# Altium schematic symbol library BSPD_Schlib.SchLib: 27 symbols (part 2 of 2)
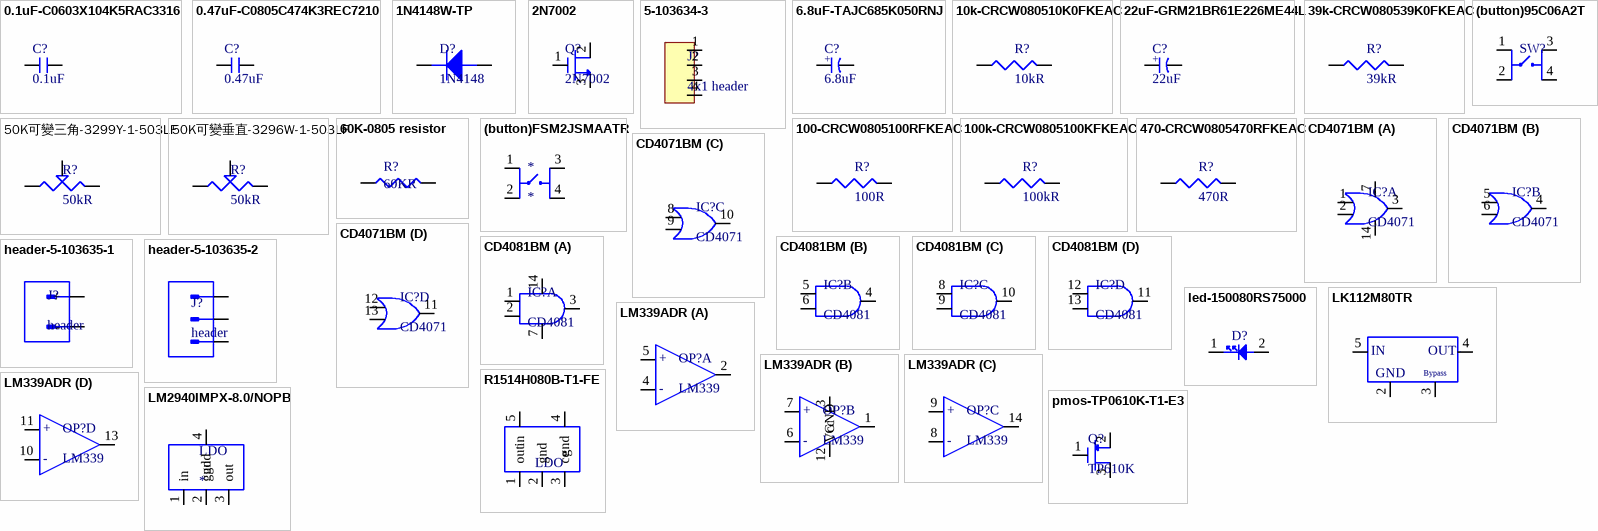
[diagram p1: symbols 0.1uF-C0603X104K5RAC3316 to R1514H080B-T1-FE]

## CD4081BM
designator IC?, comment CD4081
In a Tube of 50, Texas Instruments CD4081BM, Quad 2-Input AND Logic Gate, 14-Pin SOIC; Min Supply Voltage: 3V; Max Supply Voltage: 18V; Number of Elements: 4; Number of Outputs: 1; Quiescent Current: 5uA; High Level Output Current: -4.2mA; Low Level Output Current: 4.2mA; Output Current: 6.8mA; Number of Inputs: 2; Propagation Delay: 90ns; Turn-On Delay Time: 12ns; Schmitt Trigger Input: No; Input Capacitance: 5pF; Power Dissipation: 500mW; Supplier 1: Mouser; Supplier Part Number 1: 595-CD4081BM; Manufacturer: Texas Instruments; Manufacturer Part Number: CD4081BM; Stock 1: 2050; Pricing 1: 1 = 0.52000, 10 = 0.43300, 100 = 0.26300, 1000 = 0.20300, 2500 = 0.17300, 10000 = 0.16100 (USD); Mount: Surface Mount; Case/Package: SOIC; Number of Pins: 14; Weight: 0.004564oz; Contact Plating: Gold; Min Operating Temperature: -55°C; Max Operating Temperature: 125°C; Logic Function: AND; Packaging: Rail/Tube; Package Quantity: 50; Number of Gates: 4; Number of Circuits: 4; Number of Input Lines: 2; Number of Output Lines: 1; Number of Bits: 4; Length: 8.65mm; Height: 1.58mm; Width: 3.91mm; Radiation Hardening: No; Lead Free: Lead Free; REACH SVHC: No SVHC; ComponentLink1URL: https://datasheet.ciiva.com/1626/cd4081b-1626210.pdf?src-supplier=Newark; ComponentLink1Description: https://datasheet.ciiva.com/1626/cd4081b-1626210.pdf?src-supplier=Newark; ComponentLink2URL: https://datasheet.ciiva.com/15090/getdatasheetpartid-83085-15090610.pdf?src-supplier=Verical; ComponentLink2Description: https://datasheet.ciiva.com/15090/getdatasheetpartid-83085-15090610.pdf?src-supplier=Verical; ComponentLink3URL: https://datasheet.ciiva.com/26865/cd4081bm-26865364.pdf?src-supplier=IIIC; ComponentLink3Description: https://datasheet.ciiva.com/26865/cd4081bm-26865364.pdf?src-supplier=IIIC; ComponentLink4URL: https://datasheet.ciiva.com/41455/001015529-da-01-en-ic-2-in-and-gate-qu-cd4081bm-soic-14-tid-41455446.pdf?src-supplier=Conrad; ComponentLink4Description: https://datasheet.ciiva.com/41455/001015529-da-01-en-ic-2-in-and-gate-qu-cd4081bm-soic-14-tid-41455446.pdf?src-supplier=Conrad; ComponentLink5URL: https://datasheet.ciiva.com/1866/cd4073b-1866564.pdf?src-supplier=Digi-Key; ComponentLink5Description: https://datasheet.ciiva.com/1866/cd4073b-1866564.pdf?src-supplier=Digi-Key; ComponentLink6URL: https://datasheet.ciiva.com/7949/1833366-7949020.pdf?src-supplier=Element14; ComponentLink6Description: https://datasheet.ciiva.com/7949/1833366-7949020.pdf?src-supplier=Element14; ComponentLink7URL: https://octopart.com/click/track?ai=8629&ct=datasheets&sig=02680e7&at=physicalpart&sid=370&ppid=42573&hlid=24875867&src-supplier=TI+store; ComponentLink7Description: https://octopart.com/click/track?ai=8629&ct=datasheets&sig=02680e7&at=physicalpart&sid=370&ppid=42573&hlid=24875867&src-supplier=TI+store; ComponentLink8URL: http://datasheet.octopart.com/CD4081BM-Texas-Instruments-datasheet-151253.pdf?src-supplier=TI+store; ComponentLink8Description: http://datasheet.octopart.com/CD4081BM-Texas-Instruments-datasheet-151253.pdf?src-supplier=TI+store; ComponentLink9URL: http://datasheet.octopart.com/CD4081BM-Texas-Instruments-datasheet-10253518.pdf?src-supplier=TI+store; ComponentLink9Description: http://datasheet.octopart.com/CD4081BM-Texas-Instruments-datasheet-10253518.pdf?src-supplier=TI+store; ComponentLink10URL: http://datasheet.octopart.com/CD4081BM-Texas-Instruments-datasheet-10253444.pdf?src-supplier=TI+store; ComponentLink10Description: http://datasheet.octopart.com/CD4081BM-Texas-Instruments-datasheet-10253444.pdf?src-supplier=TI+store; ComponentLink11URL: http://datasheet.octopart.com/CD4081BM-Texas-Instruments-datasheet-10794629.pdf?src-supplier=TI+store; ComponentLink11Description: http://datasheet.octopart.com/CD4081BM-Texas-Instruments-datasheet-10794629.pdf?src-supplier=TI+store; ComponentLink12URL: http://sigma.octopart.com/49249646/technical_drawing/Texas-Instruments-CD4081BM.pdf?src-supplier=TI+store; ComponentLink12Description: http://sigma.octopart.com/49249646/technical_drawing/Texas-Instruments-CD4081BM.pdf?src-supplier=TI+store; ComponentLink13URL: http://datasheet.octopart.com/CD4081BM-Texas-Instruments-datasheet-47642733.pdf?src-supplier=Farnell; ComponentLink13Description: http://datasheet.octopart.com/CD4081BM-Texas-Instruments-datasheet-47642733.pdf?src-supplier=Farnell; ComponentLink14URL: http://datasheet.octopart.com/CD4081BM-Texas-Instruments-datasheet-5313817.pdf?src-supplier=Newark; ComponentLink14Description: http://datasheet.octopart.com/CD4081BM-Texas-Instruments-datasheet-5313817.pdf?src-supplier=Newark; ComponentLink15URL: http://datasheet.octopart.com/CD4081BM-Texas-Instruments-datasheet-8372246.pdf?src-supplier=Newark; ComponentLink15Description: http://datasheet.octopart.com/CD4081BM-Texas-Instruments-datasheet-8372246.pdf?src-supplier=Newark; ComponentLink16URL: http://datasheet.octopart.com/CD4081BM-Texas-Instruments-datasheet-32637.pdf?src-supplier=Newark; ComponentLink16Description: http://datasheet.octopart.com/CD4081BM-Texas-Instruments-datasheet-32637.pdf?src-supplier=Newark; ComponentLink17URL: http://datasheet.octopart.com/CD4081BM-Texas-Instruments-datasheet-5254.pdf?src-supplier=Allied+Electronics; ComponentLink17Description: http://datasheet.octopart.com/CD4081BM-Texas-Instruments-datasheet-5254.pdf?src-supplier=Allied+Electronics; ComponentLink18URL: http://datasheet.octopart.com/CD4081BM-Texas-Instruments-datasheet-111545.pdf?src-supplier=Sierra+IC; ComponentLink18Description: http://datasheet.octopart.com/CD4081BM-Texas-Instruments-datasheet-111545.pdf?src-supplier=Sierra+IC; ComponentLink19URL: http://datasheet.octopart.com/CD4081BM-Texas-Instruments-datasheet-7596796.pdf?src-supplier=Jameco; ComponentLink19Description: http://datasheet.octopart.com/CD4081BM-Texas-Instruments-datasheet-7596796.pdf?src-supplier=Jameco; ComponentLink20URL: http://datasheet.octopart.com/CD4081BM-Texas-Instruments-datasheet-7626019.pdf?src-supplier=Farnell; ComponentLink20Description: http://datasheet.octopart.com/CD4081BM-Texas-Instruments-datasheet-7626019.pdf?src-supplier=Farnell; ComponentLink21URL: http://datasheet.octopart.com/CD4081BM-Texas-Instruments-datasheet-7628878.pdf?src-supplier=Farnell; ComponentLink21Description: http://datasheet.octopart.com/CD4081BM-Texas-Instruments-datasheet-7628878.pdf?src-supplier=Farnell; ComponentLink22URL: http://datasheet.octopart.com/CD4081BM-Texas-Instruments-datasheet-7547189.pdf?src-supplier=Farnell; ComponentLink22Description: http://datasheet.octopart.com/CD4081BM-Texas-Instruments-datasheet-7547189.pdf?src-supplier=Farnell; ComponentLink23URL: http://datasheet.octopart.com/CD4081BM-Texas-Instruments-datasheet-5327680.pdf?src-supplier=Farnell; ComponentLink23Description: http://datasheet.octopart.com/CD4081BM-Texas-Instruments-datasheet-5327680.pdf?src-supplier=Farnell; ComponentLink24URL: http://datasheet.octopart.com/CD4081BM-Texas-Instruments-datasheet-8703573.pdf?src-supplier=Farnell; ComponentLink24Description: http://datasheet.octopart.com/CD4081BM-Texas-Instruments-datasheet-8703573.pdf?src-supplier=Farnell; ComponentLink25URL: http://datasheet.octopart.com/CD4081BM-Texas-Instruments-datasheet-604431.pdf?src-supplier=Farnell; ComponentLink25Description: http://datasheet.octopart.com/CD4081BM-Texas-Instruments-datasheet-604431.pdf?src-supplier=Farnell; ComponentLink26URL: http://datasheet.octopart.com/CD4081BM-Texas-Instruments-datasheet-14147925.pdf?src-supplier=IIIC; ComponentLink26Description: http://datasheet.octopart.com/CD4081BM-Texas-Instruments-datasheet-14147925.pdf?src-supplier=IIIC; ComponentLink27URL: http://datasheet.octopart.com/CD4081BM-Texas-Instruments-datasheet-10549843.pdf?src-supplier=Factory+Futures; ComponentLink27Description: http://datasheet.octopart.com/CD4081BM-Texas-Instruments-datasheet-10549843.pdf?src-supplier=Factory+Futures; ComponentLink28URL: http://datasheet.octopart.com/CD4081BM-Texas-Instruments-datasheet-27379352.pdf?src-supplier=Newark; ComponentLink28Description: http://datasheet.octopart.com/CD4081BM-Texas-Instruments-datasheet-27379352.pdf?src-supplier=Newark
footprint CD4081BM
part A pins: 1 in, 2 in, 3 out, 7 GND, 14 Vcc
part B pins: 4 out, 5 in, 6 in
part C pins: 8 in, 9 in, 10 out
part D pins: 11 out, 12 in, 13 in

## header-5-103635-1
designator J?, comment header
Conn Shrouded Header (4 Sides) HDR 2 POS 2.54mm Solder RA Thru-Hole Box/Tube; Manufacturer: TE Connectivity; Manufacturer Part Number: 5-103635-1; Contact Resistance: 15mR; Current Rating: 3A; Connector Type: Plug; Insulation Resistance: 5GR; Number of Positions: 2; Backwall/Post Interruptions: No (Without); Contact Retention: Yes (With); Plating Thickness: 2.54um; Row Spacing: 0.1inch; Tail Length: 3.3mm; Approvals: CSA; Supplier 1: Mouser; Supplier Part Number 1: 571-5-103635-1; Stock 1: 6279; Pricing 1: 1 = 0.82000, 10 = 0.68600, 100 = 0.60100, 500 = 0.53300, 1000 = 0.49000, 2500 = 0.43900, 10000 = 0.41200, 25000 = 0.39200 (USD); Mount: Through Hole; Contact Plating: Gold; Contact Material: Brass; Color: Black; Housing Color: Black; Housing Material: Thermoplastic; Contact Shape: Square; Min Operating Temperature: -65°C; Max Operating Temperature: 105°C; Packaging: Rail/Tube; Number of Rows: 1; Contact Gender: Male; Package Quantity: 70; Termination: Crimp; Number of Contacts: 2; Orientation: Right Angle; Mating Alignment: Yes (With); Mating Retention: Yes (With); PCB Mount Alignment: No (Without); Strain Relief: No (Without); Contact Current Rating: 3A; Length: 7.62mm; Height: 13.59mm; Lead Pitch: 2.54mm; Pitch: 2.54mm; Contact Mating Length: 0.23inch; Depth: 13.59mm; REACH SVHC: No SVHC; Flammability Rating: UL94 V-0; ComponentLink1URL: https://datasheet.ciiva.com/16318/eng-ds-4-1773458-0-ampmodu-mte-interconnect-sys-0411-16318801.pdf?src-supplier=Future+Electronics; ComponentLink1Description: https://datasheet.ciiva.com/16318/eng-ds-4-1773458-0-ampmodu-mte-interconnect-sys-0411-16318801.pdf?src-supplier=Future+Electronics; ComponentLink2URL: https://datasheet.ciiva.com/19462/752780-19462242.pdf?src-supplier=Jameco; ComponentLink2Description: https://datasheet.ciiva.com/19462/752780-19462242.pdf?src-supplier=Jameco; ComponentLink3URL: https://datasheet.ciiva.com/30493/0900766b80f9a68a-30493082.pdf?src-supplier=RSComponents; ComponentLink3Description: https://datasheet.ciiva.com/30493/0900766b80f9a68a-30493082.pdf?src-supplier=RSComponents; ComponentLink4URL: https://datasheet.ciiva.com/6045/1480701-6045513.pdf?src-supplier=Farnell; ComponentLink4Description: https://datasheet.ciiva.com/6045/1480701-6045513.pdf?src-supplier=Farnell; ComponentLink5URL: https://datasheet.ciiva.com/16657/eng-cs-1307819-section-5-cont-0808-16657957.pdf?src-supplier=Avnet+Europe; ComponentLink5Description: https://datasheet.ciiva.com/16657/eng-cs-1307819-section-5-cont-0808-16657957.pdf?src-supplier=Avnet+Europe; ComponentLink6URL: https://datasheet.ciiva.com/709/eng-cd-103635-s2-709865.pdf?src-supplier=Digi-Key; ComponentLink6Description: https://datasheet.ciiva.com/709/eng-cd-103635-s2-709865.pdf?src-supplier=Digi-Key; ComponentLink7URL: https://datasheet.ciiva.com/14641/70086824-14641690.pdf?src-supplier=Allied+Electronics; ComponentLink7Description: https://datasheet.ciiva.com/14641/70086824-14641690.pdf?src-supplier=Allied+Electronics; ComponentLink8URL: http://datasheet.octopart.com/5-103635-1-TE-Connectivity-datasheet-11077636.pdf?src-supplier=Newark; ComponentLink8Description: http://datasheet.octopart.com/5-103635-1-TE-Connectivity-datasheet-11077636.pdf?src-supplier=Newark; ComponentLink9URL: http://datasheet.octopart.com/5-103635-1-TE-Connectivity-datasheet-136861139.pdf?src-supplier=ShanghaiCT; ComponentLink9Description: http://datasheet.octopart.com/5-103635-1-TE-Connectivity-datasheet-136861139.pdf?src-supplier=ShanghaiCT; ComponentLink10URL: http://datasheet.octopart.com/5-103635-1-TE-Connectivity-datasheet-8324834.pdf?src-supplier=Master+Electronics; ComponentLink10Description: http://datasheet.octopart.com/5-103635-1-TE-Connectivity-datasheet-8324834.pdf?src-supplier=Master+Electronics; ComponentLink11URL: http://sigma.octopart.com/15108146/technical_drawing/TE-Connectivity-5-103635-1.pdf?src-supplier=TE+Connectivity; ComponentLink11Description: http://sigma.octopart.com/15108146/technical_drawing/TE-Connectivity-5-103635-1.pdf?src-supplier=TE+Connectivity; ComponentLink12URL: http://sigma.octopart.com/101748647/technical_drawing/TE-Connectivity-5-103635-1.pdf?src-supplier=ShanghaiCT; ComponentLink12Description: http://sigma.octopart.com/101748647/technical_drawing/TE-Connectivity-5-103635-1.pdf?src-supplier=ShanghaiCT; ComponentLink13URL: http://datasheet.octopart.com/5-103635-1-Tyco-Electronics-datasheet-13560061.pdf?src-supplier=TE+Connectivity; ComponentLink13Description: http://datasheet.octopart.com/5-103635-1-Tyco-Electronics-datasheet-13560061.pdf?src-supplier=TE+Connectivity; ComponentLink14URL: http://sigma.octopart.com/67302833/technical_drawing/TE-Connectivity-5-103635-1.pdf?src-supplier=TE+Connectivity; ComponentLink14Description: http://sigma.octopart.com/67302833/technical_drawing/TE-Connectivity-5-103635-1.pdf?src-supplier=TE+Connectivity; ComponentLink15URL: http://datasheet.octopart.com/5-103635-1-Tyco-Electronics-datasheet-8817613.pdf?src-supplier=Sager+Electronics; ComponentLink15Description: http://datasheet.octopart.com/5-103635-1-Tyco-Electronics-datasheet-8817613.pdf?src-supplier=Sager+Electronics; ComponentLink16URL: http://datasheet.octopart.com/5-103635-1-TE-Connectivity---AMP-datasheet-27832635.pdf?src-supplier=Farnell; ComponentLink16Description: http://datasheet.octopart.com/5-103635-1-TE-Connectivity---AMP-datasheet-27832635.pdf?src-supplier=Farnell; ComponentLink17URL: http://datasheet.octopart.com/5-103635-1-TE-Connectivity-datasheet-22147912.pdf?src-supplier=Allied+Electronics; ComponentLink17Description: http://datasheet.octopart.com/5-103635-1-TE-Connectivity-datasheet-22147912.pdf?src-supplier=Allied+Electronics; ComponentLink18URL: http://datasheet.octopart.com/5-103635-1-TE-Connectivity-datasheet-8318492.pdf?src-supplier=Jameco; ComponentLink18Description: http://datasheet.octopart.com/5-103635-1-TE-Connectivity-datasheet-8318492.pdf?src-supplier=Jameco; ComponentLink19URL: http://datasheet.octopart.com/5-103635-1-Tyco-Electronics-datasheet-508243.pdf?src-supplier=Future+Electronics; ComponentLink19Description: http://datasheet.octopart.com/5-103635-1-Tyco-Electronics-datasheet-508243.pdf?src-supplier=Future+Electronics; ComponentLink20URL: http://datasheet.octopart.com/5-103635-1-Tyco-Electronics-datasheet-8817976.pdf?src-supplier=Farnell; ComponentLink20Description: http://datasheet.octopart.com/5-103635-1-Tyco-Electronics-datasheet-8817976.pdf?src-supplier=Farnell; ComponentLink21URL: http://datasheet.octopart.com/5-103635-1-Tyco-Electronics-datasheet-9876728.pdf?src-supplier=Allied+Electronics; ComponentLink21Description: http://datasheet.octopart.com/5-103635-1-Tyco-Electronics-datasheet-9876728.pdf?src-supplier=Allied+Electronics; ComponentLink22URL: http://datasheet.octopart.com/5-103635-1-Tyco-Electronics-datasheet-13560509.pdf?src-supplier=Farnell; ComponentLink22Description: http://datasheet.octopart.com/5-103635-1-Tyco-Electronics-datasheet-13560509.pdf?src-supplier=Farnell
footprint 2pin-header
pins: 1 +, 2 -

## header-5-103635-2
designator J?, comment header
Conn Shrouded Header (4 Sides) HDR 3 POS 2.54mm Solder RA Thru-Hole Box/Tube; Manufacturer: TE Connectivity; Manufacturer Part Number: 5-103635-2; Contact Resistance: 15mR; Current Rating: 3A; Number of Positions: 3; Insulation Resistance: 5GR; Connector Type: Plug; Backwall/Post Interruptions: No (Without); Contact Retention: Yes (With); Plating Thickness: 2.54um; PCB Mount Retention: Without; PCB Mounting Orientation: Right Angle; Row Spacing: 0.1inch; Tail Length: 3.3mm; Approvals: CSA; Supplier 1: Mouser; Stock 1: 3096; Pricing 1: 1 = 1.32000, 10 = 1.10000, 100 = 0.96700, 500 = 0.85900, 1000 = 0.76400, 2500 = 0.73500 (USD); Mount: Through Hole; Contact Plating: Gold; Contact Material: Brass; Color: Black; Housing Color: Black; Housing Material: Thermoplastic; Contact Shape: Square; Min Operating Temperature: -65°C; Max Operating Temperature: 105°C; Number of Rows: 1; Packaging: Rail/Tube; Contact Gender: Male; Package Quantity: 52; Termination: Crimp; Number of Contacts: 3; Orientation: Right Angle; Mating Alignment: Yes (With); Mating Retention: Yes (With); PCB Mount Alignment: No (Without); Strain Relief: No (Without); Contact Current Rating: 3A; Length: 0.4inch; Height: 13.59mm; Lead Pitch: 2.54mm; Width: 0.4inch; Pitch: 2.54mm; Contact Mating Length: 0.23inch; Depth: 13.59mm; REACH SVHC: No SVHC; Flammability Rating: UL94 V-0; ComponentLink1URL: https://datasheet.ciiva.com/30493/0900766b80f9a68b-30493124.pdf?src-supplier=RSComponents; ComponentLink1Description: https://datasheet.ciiva.com/30493/0900766b80f9a68b-30493124.pdf?src-supplier=RSComponents; ComponentLink2URL: https://datasheet.ciiva.com/19461/752798-19461418.pdf?src-supplier=Jameco; ComponentLink2Description: https://datasheet.ciiva.com/19461/752798-19461418.pdf?src-supplier=Jameco; ComponentLink3URL: https://datasheet.ciiva.com/30057/eng-cs-1307819-section-5-cont-0808-30057509.pdf?src-supplier=Onlinecomponents.com; ComponentLink3Description: https://datasheet.ciiva.com/30057/eng-cs-1307819-section-5-cont-0808-30057509.pdf?src-supplier=Onlinecomponents.com; ComponentLink4URL: https://datasheet.ciiva.com/16684/eng-cs-1307819-section-5-cont-0808-16684822.pdf?src-supplier=Avnet+Europe; ComponentLink4Description: https://datasheet.ciiva.com/16684/eng-cs-1307819-section-5-cont-0808-16684822.pdf?src-supplier=Avnet+Europe; ComponentLink5URL: https://datasheet.ciiva.com/46442/1829811-46442918.pdf?src-supplier=Element14; ComponentLink5Description: https://datasheet.ciiva.com/46442/1829811-46442918.pdf?src-supplier=Element14; ComponentLink6URL: https://datasheet.ciiva.com/710/eng-cd-103635-s2-710040.pdf?src-supplier=Digi-Key; ComponentLink6Description: https://datasheet.ciiva.com/710/eng-cd-103635-s2-710040.pdf?src-supplier=Digi-Key; ComponentLink7URL: https://datasheet.ciiva.com/3118/eng-cs-1307819-section-5-cont-0808-3118264.pdf?src-supplier=Avnet; ComponentLink7Description: https://datasheet.ciiva.com/3118/eng-cs-1307819-section-5-cont-0808-3118264.pdf?src-supplier=Avnet; ComponentLink8URL: https://datasheet.ciiva.com/6005/eng-cd-103635-s2-6005515.pdf?src-supplier=Farnell; ComponentLink8Description: https://datasheet.ciiva.com/6005/eng-cd-103635-s2-6005515.pdf?src-supplier=Farnell; ComponentLink9URL: https://datasheet.ciiva.com/7703/1650927-7703291.pdf?src-supplier=Element14; ComponentLink9Description: https://datasheet.ciiva.com/7703/1650927-7703291.pdf?src-supplier=Element14; ComponentLink10URL: https://datasheet.ciiva.com/16375/eng-ds-4-1773458-0-ampmodu-mte-interconnect-sys-0411-16375323.pdf?src-supplier=Future+Electronics; ComponentLink10Description: https://datasheet.ciiva.com/16375/eng-ds-4-1773458-0-ampmodu-mte-interconnect-sys-0411-16375323.pdf?src-supplier=Future+Electronics; ComponentLink11URL: http://datasheet.octopart.com/5-103635-2-TE-Connectivity-datasheet-11077636.pdf?src-supplier=Newark; ComponentLink11Description: http://datasheet.octopart.com/5-103635-2-TE-Connectivity-datasheet-11077636.pdf?src-supplier=Newark; ComponentLink12URL: http://datasheet.octopart.com/5-103635-2-TE-Connectivity-datasheet-136861139.pdf?src-supplier=ShanghaiCT; ComponentLink12Description: http://datasheet.octopart.com/5-103635-2-TE-Connectivity-datasheet-136861139.pdf?src-supplier=ShanghaiCT; ComponentLink13URL: http://datasheet.octopart.com/5-103635-2-TE-Connectivity-datasheet-8324834.pdf?src-supplier=Element14; ComponentLink13Description: http://datasheet.octopart.com/5-103635-2-TE-Connectivity-datasheet-8324834.pdf?src-supplier=Element14; ComponentLink14URL: http://sigma.octopart.com/15108146/technical_drawing/TE-Connectivity-5-103635-2.pdf?src-supplier=TE+Connectivity; ComponentLink14Description: http://sigma.octopart.com/15108146/technical_drawing/TE-Connectivity-5-103635-2.pdf?src-supplier=TE+Connectivity; ComponentLink15URL: http://sigma.octopart.com/101748647/technical_drawing/TE-Connectivity-5-103635-2.pdf?src-supplier=Future+Electronics; ComponentLink15Description: http://sigma.octopart.com/101748647/technical_drawing/TE-Connectivity-5-103635-2.pdf?src-supplier=Future+Electronics; ComponentLink16URL: http://datasheet.octopart.com/5-103635-2-Agastat-datasheet-13560061.pdf?src-supplier=Element14; ComponentLink16Description: http://datasheet.octopart.com/5-103635-2-Agastat-datasheet-13560061.pdf?src-supplier=Element14; ComponentLink17URL: http://sigma.octopart.com/67302833/technical_drawing/TE-Connectivity-5-103635-2.pdf?src-supplier=TE+Connectivity; ComponentLink17Description: http://sigma.octopart.com/67302833/technical_drawing/TE-Connectivity-5-103635-2.pdf?src-supplier=TE+Connectivity; ComponentLink18URL: http://datasheet.octopart.com/5-103635-2-TE-Connectivity---AMP-datasheet-27832635.pdf?src-supplier=Farnell; ComponentLink18Description: http://datasheet.octopart.com/5-103635-2-TE-Connectivity---AMP-datasheet-27832635.pdf?src-supplier=Farnell; ComponentLink19URL: http://datasheet.octopart.com/5-103635-2-TE-Connectivity-datasheet-9784454.pdf?src-supplier=Allied+Electronics; ComponentLink19Description: http://datasheet.octopart.com/5-103635-2-TE-Connectivity-datasheet-9784454.pdf?src-supplier=Allied+Electronics; ComponentLink20URL: http://datasheet.octopart.com/5-103635-2-TE-Connectivity-datasheet-7579224.pdf?src-supplier=Jameco; ComponentLink20Description: http://datasheet.octopart.com/5-103635-2-TE-Connectivity-datasheet-7579224.pdf?src-supplier=Jameco; ComponentLink21URL: http://datasheet.octopart.com/5-103635-2-Tyco-Electronics-datasheet-8817976.pdf?src-supplier=Farnell; ComponentLink21Description: http://datasheet.octopart.com/5-103635-2-Tyco-Electronics-datasheet-8817976.pdf?src-supplier=Farnell; ComponentLink22URL: http://datasheet.octopart.com/5-103635-2-Tyco-Electronics-datasheet-508243.pdf?src-supplier=Farnell; ComponentLink22Description: http://datasheet.octopart.com/5-103635-2-Tyco-Electronics-datasheet-508243.pdf?src-supplier=Farnell; ComponentLink23URL: http://datasheet.octopart.com/5-103635-2-Tyco-Electronics-datasheet-529336.pdf?src-supplier=Farnell; ComponentLink23Description: http://datasheet.octopart.com/5-103635-2-Tyco-Electronics-datasheet-529336.pdf?src-supplier=Farnell; ComponentLink24URL: http://datasheet.octopart.com/5-103635-2-Tyco-Electronics-datasheet-5313028.pdf?src-supplier=Farnell; ComponentLink24Description: http://datasheet.octopart.com/5-103635-2-Tyco-Electronics-datasheet-5313028.pdf?src-supplier=Farnell; ComponentLink25URL: http://datasheet.octopart.com/5-103635-2-Tyco-Electronics-datasheet-5314212.pdf?src-supplier=Farnell; ComponentLink25Description: http://datasheet.octopart.com/5-103635-2-Tyco-Electronics-datasheet-5314212.pdf?src-supplier=Farnell; ComponentLink26URL: http://datasheet.octopart.com/5-103635-2-Tyco-Electronics-datasheet-5388268.pdf?src-supplier=Farnell; ComponentLink26Description: http://datasheet.octopart.com/5-103635-2-Tyco-Electronics-datasheet-5388268.pdf?src-supplier=Farnell; ComponentLink27URL: http://datasheet.octopart.com/5-103635-2-Tyco-Electronics-datasheet-5398832.pdf?src-supplier=Farnell; ComponentLink27Description: http://datasheet.octopart.com/5-103635-2-Tyco-Electronics-datasheet-5398832.pdf?src-supplier=Farnell; ComponentLink28URL: http://datasheet.octopart.com/5-103635-2-Tyco-Electronics-datasheet-5403185.pdf?src-supplier=Farnell; ComponentLink28Description: http://datasheet.octopart.com/5-103635-2-Tyco-Electronics-datasheet-5403185.pdf?src-supplier=Farnell; ComponentLink29URL: http://datasheet.octopart.com/5-103635-2-Tyco-Electronics-datasheet-5458970.pdf?src-supplier=Farnell; ComponentLink29Description: http://datasheet.octopart.com/5-103635-2-Tyco-Electronics-datasheet-5458970.pdf?src-supplier=Farnell; ComponentLink30URL: http://datasheet.octopart.com/5-103635-2-Tyco-Electronics-datasheet-13560510.pdf?src-supplier=Farnell; ComponentLink30Description: http://datasheet.octopart.com/5-103635-2-Tyco-Electronics-datasheet-13560510.pdf?src-supplier=Farnell; ComponentLink31URL: http://datasheet.octopart.com/5-103635-2-TE-Connectivity---AMP-datasheet-8817613.pdf?src-supplier=Sager+Electronics; ComponentLink31Description: http://datasheet.octopart.com/5-103635-2-TE-Connectivity---AMP-datasheet-8817613.pdf?src-supplier=Sager+Electronics; Supplier Part Number 1: 571-5-103635-2
footprint 3PIN-header
pins: 1, 2, 3

## led-150080RS75000
designator D?  (value not drawn)
On a Reel of 4000, 2 V Red LED 2012 (0805) SMD, Wurth Elektronik WL-SMCW 150080RS75000; Manufacturer: Würth Elektronik; Luminous Intensity: 150mcd; Viewing Angle: 140°; Forward Voltage: 2V; Wavelength: 625nm; Lens Style: Clear; Forward Current: 30mA; Test Current: 20mA; Supplier 1: Mouser; Supplier Part Number 1: 710-150080RS75000; Manufacturer Part Number: 150080RS75000; Stock 1: 24117; Pricing 1: 1 = 0.18000, 10 = 0.17500, 25 = 0.17400, 50 = 0.16200, 100 = 0.13900, 250 = 0.12300 (USD); Mount: Surface Mount; Case/Package: 0805; Color: Red; Case Code (Metric): 2012; Case Code (Imperial): 0805; Min Operating Temperature: -40°C; Max Operating Temperature: 85°C; Package Quantity: 4000; Packaging: Tape and Reel; Dominant Wavelength: 625nm; Length: 2mm; Height: 0.7mm; Width: 1.25mm; REACH SVHC: Unknown; ComponentLink1URL: https://datasheet.ciiva.com/22656/150080rs75000-22656961.pdf?src-supplier=Element14; ComponentLink1Description: https://datasheet.ciiva.com/22656/150080rs75000-22656961.pdf?src-supplier=Element14; ComponentLink2URL: https://datasheet.ciiva.com/29279/759435-da-01-en-chipled-0805-w-kl-rot-150080rs75000-29279032.pdf?src-supplier=Conrad; ComponentLink2Description: https://datasheet.ciiva.com/29279/759435-da-01-en-chipled-0805-w-kl-rot-150080rs75000-29279032.pdf?src-supplier=Conrad; ComponentLink3URL: http://datasheet.octopart.com/150080RS75000-W%C3%BCrth-Elektronik-datasheet-15983792.pdf?src-supplier=Element14; ComponentLink3Description: http://datasheet.octopart.com/150080RS75000-W%C3%BCrth-Elektronik-datasheet-15983792.pdf?src-supplier=Element14; ComponentLink4URL: http://datasheet.octopart.com/150080RS75000-W%C3%BCrth-Elektronik-datasheet-41196443.pdf?src-supplier=Newark; ComponentLink4Description: http://datasheet.octopart.com/150080RS75000-W%C3%BCrth-Elektronik-datasheet-41196443.pdf?src-supplier=Newark
footprint led-0805
pins: 1, 2

## LK112M80TR
designator ?
In a Pack of 10, STMicroelectronics LK112M80TR, LDO Regulator, 150mA, 8 V 5-Pin, SOT-23; Output Voltage: 8V; Number of Outputs: 1; Min Input Voltage: 8.5V; Max Input Voltage: 14V; Dropout Voltage: 290mV; Input Bias Current: 175uA; Quiescent Current: 250uA; Polarity: Positive; Output Type: Fixed; Supplier 1: Mouser; Supplier Part Number 1: 511-LK112M80TR; Manufacturer: STMicroelectronics; Manufacturer Part Number: LK112M80TR; Stock 1: 3114; Pricing 1: 1 = 0.56000, 10 = 0.47100, 100 = 0.30400, 1000 = 0.24300, 3000 = 0.20500, 9000 = 0.19800 (USD); Mount: Surface Mount; Case/Package: SOT-23; Number of Pins: 5; Min Operating Temperature: -40°C; Max Operating Temperature: 125°C; Max Output Current: 150mA; Package Quantity: 1; Packaging: Tape and Reel; Output Current: 150mA; Number of Regulators: 1; Min Current Limit: 150mA; Min Output Voltage: 8V; Length: 3mm; Height: 1.3mm; Width: 1.75mm; Radiation Hardening: No; Lead Free: Lead Free; ComponentLink1URL: https://datasheet.ciiva.com/41440/001185843-da-01-en-ic-reg-ldo-8v-0-lk112m80tr-sot-23-5-stm-41440959.pdf?src-supplier=Conrad; ComponentLink1Description: https://datasheet.ciiva.com/41440/001185843-da-01-en-ic-reg-ldo-8v-0-lk112m80tr-sot-23-5-stm-41440959.pdf?src-supplier=Conrad; ComponentLink2URL: https://datasheet.ciiva.com/2042/cd00002190-2042435.pdf?src-supplier=Digi-Key; ComponentLink2Description: https://datasheet.ciiva.com/2042/cd00002190-2042435.pdf?src-supplier=Digi-Key; ComponentLink3URL: https://datasheet.ciiva.com/2042/cd00002190-2042433.pdf?src-supplier=Digi-Key; ComponentLink3Description: https://datasheet.ciiva.com/2042/cd00002190-2042433.pdf?src-supplier=Digi-Key; ComponentLink4URL: https://datasheet.ciiva.com/2042/cd00002190-2042434.pdf?src-supplier=Digi-Key; ComponentLink4Description: https://datasheet.ciiva.com/2042/cd00002190-2042434.pdf?src-supplier=Digi-Key; ComponentLink5URL: http://datasheet.octopart.com/LK112M80TR-STMicroelectronics-datasheet-39139443.pdf?src-supplier=Newark; ComponentLink5Description: http://datasheet.octopart.com/LK112M80TR-STMicroelectronics-datasheet-39139443.pdf?src-supplier=Newark; ComponentLink6URL: http://datasheet.octopart.com/LK112M80TR-STMicroelectronics-datasheet-10836775.pdf?src-supplier=Future+Electronics; ComponentLink6Description: http://datasheet.octopart.com/LK112M80TR-STMicroelectronics-datasheet-10836775.pdf?src-supplier=Future+Electronics; ComponentLink7URL: http://datasheet.octopart.com/LK112M80TR-STMicroelectronics-datasheet-115472.pdf?src-supplier=Sierra+IC; ComponentLink7Description: http://datasheet.octopart.com/LK112M80TR-STMicroelectronics-datasheet-115472.pdf?src-supplier=Sierra+IC
footprint LK112M80TR (SOT23, 5-Leads, Body 2.90x2.80mm, Pitch 0.95mm, IPC Medium Density)
pins: 2, 3, 4, 5
text: IN; OUT; GND; Bypass

## LM339ADR
designator OP?, comment LM339
Manufacturer: Rochester Electronics; Manufacturer Part Number: LM339ADR; Nominal Supply Current: 2mA; Output Current: 16mA; Number of Channels: 4; Quiescent Current: 800uA; Supplier 1: Mouser; Supplier Part Number 1: 595-LM339ADR; RoHS: No; Stock 1: 22756; Pricing 1: 1 = 0.37000, 10 = 0.27500, 100 = 0.14900, 1000 = 0.11200, 2500 = 0.09700, 10000 = 0.09000 (USD); Case/Package: SOIC; Number of Pins: 14; Packaging: Bulk; Lead Free: Lead Free; REACH SVHC: No SVHC
footprint LM339ADR
part A pins: 2 out, 4 -, 5 +
part B pins: 1 out, 3 Vcc, 6 -, 7 +, 12 GND
part C pins: 8 -, 9 +, 14 out
part D pins: 10 -, 11 +, 13 out

## LM2940IMPX-8.0/NOPB
designator LDO
LDO Regulator Pos 8V 1A 4-Pin(3+Tab) SOT-223 T/R; Manufacturer: Texas Instruments; Manufacturer Part Number: LM2940IMPX-8.0/NOPB; Dropout Voltage: 500mV; Number of Outputs: 1; Min Input Voltage: 9.4V; Max Input Voltage: 26V; Polarity: Positive; Quiescent Current: 15mA; Output Type: Fixed; Supplier 1: Mouser; Stock 1: 3837; Pricing 1: 1 = 1.55000, 10 = 1.32000, 100 = 1.05000, 500 = 0.92300, 1000 = 0.76500, 2000 = 0.71200 (USD); Mount: Surface Mount; Case/Package: TO-261-4; Number of Pins: 4; Min Operating Temperature: -40°C; Max Operating Temperature: 125°C; Packaging: Tape and Reel; Output Voltage: 8V; Package Quantity: 2000; Output Current: 1A; Max Output Current: 1A; Number of Regulators: 1; Radiation Hardening: No; Lead Free: Lead Free; ComponentLink1URL: https://datasheet.ciiva.com/6583/lm2940-n-6583894.pdf?src-supplier=Digi-Key; ComponentLink1Description: https://datasheet.ciiva.com/6583/lm2940-n-6583894.pdf?src-supplier=Digi-Key; ComponentLink2URL: https://datasheet.ciiva.com/14275/lm2940c-14275563.pdf?src-supplier=Avnet; ComponentLink2Description: https://datasheet.ciiva.com/14275/lm2940c-14275563.pdf?src-supplier=Avnet; ComponentLink3URL: https://datasheet.ciiva.com/26170/lm2940c-26170414.pdf?src-supplier=Avnet+Europe; ComponentLink3Description: https://datasheet.ciiva.com/26170/lm2940c-26170414.pdf?src-supplier=Avnet+Europe; ComponentLink4URL: https://octopart.com/click/track?ai=8629&ct=datasheets&sig=0204b2a&at=physicalpart&sid=370&ppid=24845755&hlid=24887964&src-supplier=TI+store; ComponentLink4Description: https://octopart.com/click/track?ai=8629&ct=datasheets&sig=0204b2a&at=physicalpart&sid=370&ppid=24845755&hlid=24887964&src-supplier=TI+store; ComponentLink5URL: http://datasheet.octopart.com/LM2940IMPX-8.0/NOPB-Texas-Instruments-datasheet-10621823.pdf?src-supplier=TI+store; ComponentLink5Description: http://datasheet.octopart.com/LM2940IMPX-8.0/NOPB-Texas-Instruments-datasheet-10621823.pdf?src-supplier=TI+store; ComponentLink6URL: http://datasheet.octopart.com/LM2940IMPX-8.0-NOPB-Texas-Instruments-datasheet-14775597.pdf?src-supplier=TI+store; ComponentLink6Description: http://datasheet.octopart.com/LM2940IMPX-8.0-NOPB-Texas-Instruments-datasheet-14775597.pdf?src-supplier=TI+store; ComponentLink7URL: http://datasheet.octopart.com/LM2940IMPX-8.0-NOPB-Texas-Instruments-datasheet-34156496.pdf?src-supplier=TI+store; ComponentLink7Description: http://datasheet.octopart.com/LM2940IMPX-8.0-NOPB-Texas-Instruments-datasheet-34156496.pdf?src-supplier=TI+store; ComponentLink8URL: http://datasheet.octopart.com/LM2940IMPX-8.0-NOPB-Texas-Instruments-datasheet-37140193.pdf?src-supplier=TI+store; ComponentLink8Description: http://datasheet.octopart.com/LM2940IMPX-8.0-NOPB-Texas-Instruments-datasheet-37140193.pdf?src-supplier=TI+store; ComponentLink9URL: http://sigma.octopart.com/49253063/technical_drawing/Texas-Instruments-LM2940IMPX-8.0-NOPB.pdf?src-supplier=TI+store; ComponentLink9Description: http://sigma.octopart.com/49253063/technical_drawing/Texas-Instruments-LM2940IMPX-8.0-NOPB.pdf?src-supplier=TI+store; Supplier Part Number 1: 926-LM2940IMPX80NOPB
footprint LM2940IMPX-8.0/NOPB (SOT223, 4-Leads, Body 6.50x7.00mm (avg), Pitch 2.30mm, IPC Medium Density)
pins: 1 in, 2 gnd, 3 out, 4 gnd

## pmos-TP0610K-T1-E3
designator Q?, comment TP610K
Mosfet; P-ch; Vdss -60V; Rds(on) 10 Ohms; Id -185MA; TO-236 (SOT-23); Pd 350MW; -55DEGC; Manufacturer: Vishay; Manufacturer Part Number: TP0610K-T1-E3; Number of Elements: 1; Nominal Vgs: -3V; Rds On Max: 6R; Input Capacitance: 23pF; Drain to Source Voltage (Vdss): 60V; Continuous Drain Current (ID): 185mA; Drain to Source Resistance: 10R; Gate to Source Voltage (Vgs): 20V; Turn-On Delay Time: 20ns; Element Configuration: Single; Supplier 1: Mouser; Supplier Part Number 1: 781-TP0610K-E3; Stock 1: 32221; Pricing 1: 1 = 0.38000, 10 = 0.31200, 100 = 0.21900, 500 = 0.16400, 1000 = 0.13700, 3000 = 0.13000 (USD); Mount: Surface Mount; Case/Package: TO-236; Number of Pins: 3; Weight: 0.050717oz; Min Operating Temperature: -55°C; Max Operating Temperature: 150°C; Max Power Dissipation: 350mW; Packaging: Tape and Reel; Package Quantity: 1; Power Dissipation: 350mW; Threshold Voltage: -3V; Drain to Source Breakdown Voltage: -60V; Number of Channels: 1; On-State Resistance: 10R; Length: 3.04mm; Height: 1.02mm; Width: 1.4mm; Radiation Hardening: No; REACH SVHC: Unknown; Lead Free: Lead Free; ComponentLink1URL: https://datasheet.ciiva.com/7371/1747937-7371045.pdf?src-supplier=Newark; ComponentLink1Description: https://datasheet.ciiva.com/7371/1747937-7371045.pdf?src-supplier=Newark; ComponentLink2URL: https://datasheet.ciiva.com/26942/getdatasheetpartid-110418-26942995.pdf?src-supplier=Verical; ComponentLink2Description: https://datasheet.ciiva.com/26942/getdatasheetpartid-110418-26942995.pdf?src-supplier=Verical; ComponentLink3URL: https://datasheet.ciiva.com/26790/tp0610k-t1-e3-26790388.pdf?src-supplier=IIIC; ComponentLink3Description: https://datasheet.ciiva.com/26790/tp0610k-t1-e3-26790388.pdf?src-supplier=IIIC; ComponentLink4URL: https://datasheet.ciiva.com/18432/70026028-18432550.pdf?src-supplier=Allied+Electronics; ComponentLink4Description: https://datasheet.ciiva.com/18432/70026028-18432550.pdf?src-supplier=Allied+Electronics; ComponentLink5URL: https://datasheet.ciiva.com/22754/1747937-22754554.pdf?src-supplier=Farnell; ComponentLink5Description: https://datasheet.ciiva.com/22754/1747937-22754554.pdf?src-supplier=Farnell; ComponentLink6URL: https://datasheet.ciiva.com/7789/1747937-7789084.pdf?src-supplier=Element14; ComponentLink6Description: https://datasheet.ciiva.com/7789/1747937-7789084.pdf?src-supplier=Element14; ComponentLink7URL: https://datasheet.ciiva.com/8114/tp0610k-8114892.pdf?src-supplier=Avnet; ComponentLink7Description: https://datasheet.ciiva.com/8114/tp0610k-8114892.pdf?src-supplier=Avnet; ComponentLink8URL: https://datasheet.ciiva.com/11161/tp0610k-11161438.pdf?src-supplier=Avnet; ComponentLink8Description: https://datasheet.ciiva.com/11161/tp0610k-11161438.pdf?src-supplier=Avnet; ComponentLink9URL: https://datasheet.ciiva.com/46398/1747937-46398094.pdf?src-supplier=Element14; ComponentLink9Description: https://datasheet.ciiva.com/46398/1747937-46398094.pdf?src-supplier=Element14; ComponentLink10URL: https://datasheet.ciiva.com/26139/tp0610k-26139160.pdf?src-supplier=Avnet+Europe; ComponentLink10Description: https://datasheet.ciiva.com/26139/tp0610k-26139160.pdf?src-supplier=Avnet+Europe; ComponentLink11URL: https://datasheet.ciiva.com/6388/tp0610k-6388255.pdf?src-supplier=Digi-Key; ComponentLink11Description: https://datasheet.ciiva.com/6388/tp0610k-6388255.pdf?src-supplier=Digi-Key; ComponentLink12URL: http://datasheet.octopart.com/TP0610K-T1-E3-Vishay-datasheet-10031356.pdf?src-supplier=Farnell; ComponentLink12Description: http://datasheet.octopart.com/TP0610K-T1-E3-Vishay-datasheet-10031356.pdf?src-supplier=Farnell; ComponentLink13URL: http://datasheet.octopart.com/TP0610K-T1-E3-Vishay-datasheet-12533050.pdf?src-supplier=Farnell; ComponentLink13Description: http://datasheet.octopart.com/TP0610K-T1-E3-Vishay-datasheet-12533050.pdf?src-supplier=Farnell; ComponentLink14URL: http://datasheet.octopart.com/TP0610K-T1-E3-Vishay-datasheet-12550487.pdf?src-supplier=Farnell; ComponentLink14Description: http://datasheet.octopart.com/TP0610K-T1-E3-Vishay-datasheet-12550487.pdf?src-supplier=Farnell; ComponentLink15URL: http://datasheet.octopart.com/TP0610K-T1-E3-Vishay-datasheet-21270958.pdf?src-supplier=Element14; ComponentLink15Description: http://datasheet.octopart.com/TP0610K-T1-E3-Vishay-datasheet-21270958.pdf?src-supplier=Element14; ComponentLink16URL: http://datasheet.octopart.com/TP0610K-T1-E3-Vishay-datasheet-62319398.pdf?src-supplier=Newark; ComponentLink16Description: http://datasheet.octopart.com/TP0610K-T1-E3-Vishay-datasheet-62319398.pdf?src-supplier=Newark; ComponentLink17URL: http://datasheet.octopart.com/TP0610K-T1-E3-Vishay-datasheet-8327186.pdf?src-supplier=Element14; ComponentLink17Description: http://datasheet.octopart.com/TP0610K-T1-E3-Vishay-datasheet-8327186.pdf?src-supplier=Element14; ComponentLink18URL: http://datasheet.octopart.com/TP0610K-T1-E3-Vishay-datasheet-8373677.pdf?src-supplier=Element14; ComponentLink18Description: http://datasheet.octopart.com/TP0610K-T1-E3-Vishay-datasheet-8373677.pdf?src-supplier=Element14; ComponentLink19URL: http://datasheet.octopart.com/TP0610K-T1-E3-Vishay-datasheet-8823972.pdf?src-supplier=Element14; ComponentLink19Description: http://datasheet.octopart.com/TP0610K-T1-E3-Vishay-datasheet-8823972.pdf?src-supplier=Element14; ComponentLink20URL: http://datasheet.octopart.com/TP0610K-T1-E3-Vishay-datasheet-41195321.pdf?src-supplier=Farnell; ComponentLink20Description: http://datasheet.octopart.com/TP0610K-T1-E3-Vishay-datasheet-41195321.pdf?src-supplier=Farnell; ComponentLink21URL: http://datasheet.octopart.com/TP0610K-T1-E3-Vishay-datasheet-48685623.pdf?src-supplier=Newark; ComponentLink21Description: http://datasheet.octopart.com/TP0610K-T1-E3-Vishay-datasheet-48685623.pdf?src-supplier=Newark; ComponentLink22URL: http://datasheet.octopart.com/TP0610K-T1-E3-Vishay-datasheet-62319399.pdf?src-supplier=Element14; ComponentLink22Description: http://datasheet.octopart.com/TP0610K-T1-E3-Vishay-datasheet-62319399.pdf?src-supplier=Element14; ComponentLink23URL: http://datasheet.octopart.com/TP0610K-T1-E3-Vishay-datasheet-74065.pdf?src-supplier=Newark; ComponentLink23Description: http://datasheet.octopart.com/TP0610K-T1-E3-Vishay-datasheet-74065.pdf?src-supplier=Newark; ComponentLink24URL: http://datasheet.octopart.com/TP0610K-T1-E3-Vishay-datasheet-9986767.pdf?src-supplier=Allied+Electronics; ComponentLink24Description: http://datasheet.octopart.com/TP0610K-T1-E3-Vishay-datasheet-9986767.pdf?src-supplier=Allied+Electronics; ComponentLink25URL: http://datasheet.octopart.com/TP0610K-T1-E3-Vishay-datasheet-11783167.pdf?src-supplier=Arrow; ComponentLink25Description: http://datasheet.octopart.com/TP0610K-T1-E3-Vishay-datasheet-11783167.pdf?src-supplier=Arrow; ComponentLink26URL: http://datasheet.octopart.com/TP0610K-T1-E3-Vishay-datasheet-14187242.pdf?src-supplier=IIIC; ComponentLink26Description: http://datasheet.octopart.com/TP0610K-T1-E3-Vishay-datasheet-14187242.pdf?src-supplier=IIIC
footprint TP0610K-T1-E3 (SOT23, 3-Leads, Body 2.92x2.37mm, Pitch 0.95mm, IPC Medium Density)
pins: 1, 2, 3

## R1514H080B-T1-FE
designator ?, comment LDO
LDO Regulator Pos 8V 0.15A Automotive 6-Pin(5+Tab) SOT-89 T/R; Manufacturer: Ricoh; Manufacturer Part Number: R1514H080B-T1-FE; Dropout Voltage: 200mV; Output Voltage Accuracy: 2%; Supplier 1: Mouser; Stock 1: 1000; Pricing 1: 1 = 1.47000, 10 = 1.25000, 100 = 0.96100, 500 = 0.84900, 1000 = 0.67000, 2000 = 0.57100 (USD); Case/Package: SOT-89-5; Output Voltage: 8V; Lead Free: Lead Free; Supplier Part Number 1: 848-R1514H080BT1FE
footprint R1514H080B-T1-FE-V2 (SOT89, 3-Leads, Body 4.50x2.50mm, Pitch 1.50mm, Lead Span 3.5mm, IPC Medium Density)
pins: 1 out, 2 gnd, 3 ce, 4 gnd, 5 in